# EAGLE library part A5984-TSSOP (library A5984)
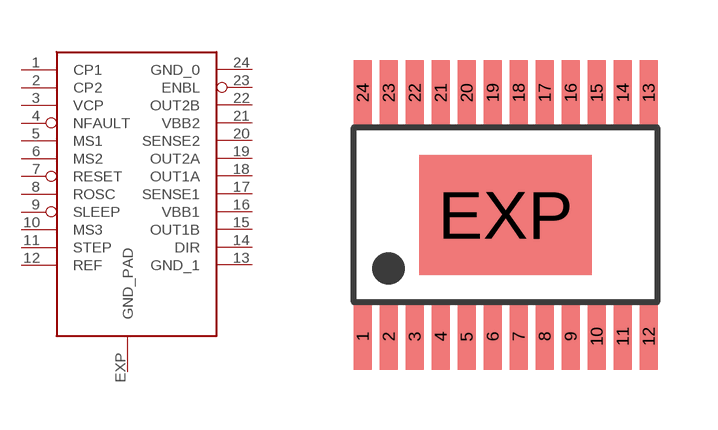
[diagram p0: symbol with the pads of TSSOP-28; footprint TSSOP-28]

Designator prefix -

## A5984-TSSOP  [TSSOP-28]
1  CP1
2  CP2
3  VCP
4  NFAULT  out
5  MS1  in
6  MS2  in
7  RESET  in
8  ROSC  in
9  SLEEP  in
10  MS3  in
11  STEP  in
12  REF  in
13  GND_1  pwr
14  DIR  in
15  OUT1B  out
16  VBB1  pwr
17  SENSE1  out
18  OUT1A  out
19  OUT2A  out
20  SENSE2  out
21  VBB2  pwr
22  OUT2B  out
23  ENBL  in
24  GND_0  pwr
EXP  GND_PAD  pwr

## Footprint TSSOP-28 (pad centres in mm)
smd 0.45 x 1.65: 1 -3.575,-3.05; 2 -2.925,-3.05; 3 -2.275,-3.05; 4 -1.625,-3.05; 5 -0.975,-3.05; 6 -0.325,-3.05; 7 0.325,-3.05; 8 0.975,-3.05; 9 1.625,-3.05; 10 2.275,-3.05; 11 2.925,-3.05; 12 3.575,-3.05; 13 3.575,3.05; 14 2.925,3.05; 15 2.275,3.05; 16 1.625,3.05; 17 0.975,3.05; 18 0.325,3.05; 19 -0.325,3.05; 20 -0.975,3.05; 21 -1.625,3.05; 22 -2.275,3.05; 23 -2.925,3.05; 24 -3.575,3.05
smd 4.32 x 3: EXP 0,0